# Altium footprint library Wurth_Electronics_7445720_0.PcbLib: 1 footprints
Each footprint in its own frame and in the unit in brackets; x right, y up, seen from the top. Pads: shape width x height; smd on the part's side, far side on the other; paste and mask are expansions set on the pad; w line width, h text height; cw(c..) or ccw(c..) is an arc to the next point about the centre after c.
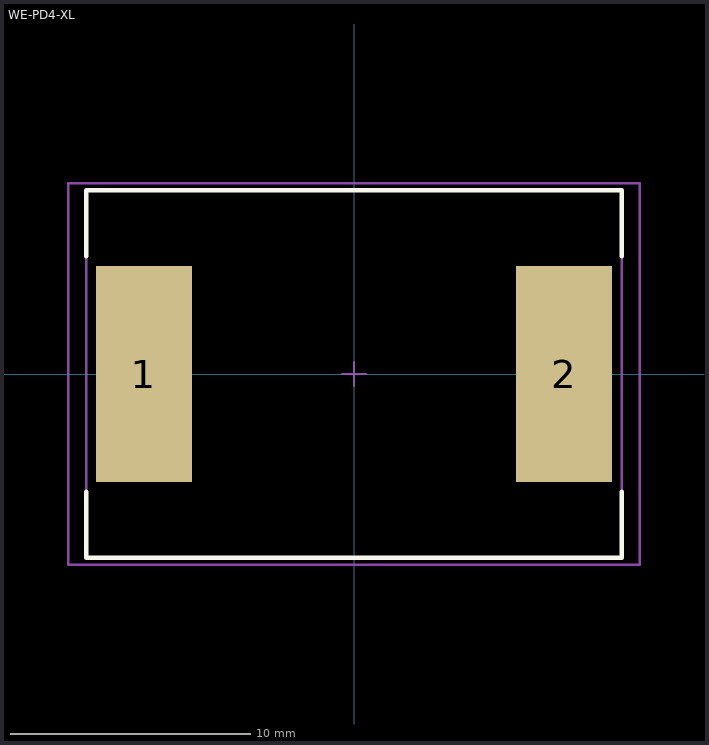
[diagram p0: the footprint, top view; thin cyan lines are the x and y axes]

## WE-PD4-XL [mm] "SMD Inductor, 2-Leads, Body 22.0 x 15.0 mm"
height 7.8
pads (2):
  rect 4x9 smd: 1(-8.75,0) 2(8.75,0)
Top Overlay:
  lines w0.2: -11.15,-4.9 -11.15,-7.65 11.15,-7.65 11.15,-4.9 ; -11.15,4.9 -11.15,7.65 11.15,7.65 11.15,4.9
Mechanical 13:
  lines w0.1: -11.15,-7.65 11.15,-7.65 11.15,7.65 -11.15,7.65 -11.15,-7.65
Mechanical 15:
  lines w0.1: -0.5,0 0.5,0 ; 0,-0.5 0,0.5 ; -11.9,-7.95 11.9,-7.95 11.9,7.95 -11.9,7.95 -11.9,-7.95
3D body: height 6.99, standoff -0.01, extent -11,-7.5 11,7.5